# Altium schematic symbol library Schlib8.SchLib: 1 symbol
Pins are listed as number, name and electrical type; pins without a type are passive.

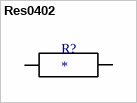
[diagram p0: symbol Res0402]

## Res0402
designator R?
footprint Res0402
footprint Res 1206
footprint RES 0805
pins: 1, 2